# Altium schematic symbol library GPS.SchLib: 1 symbol
Pins are listed as number, name and electrical type; pins without a type are passive.

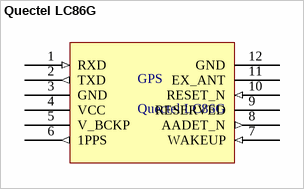
[diagram p0: symbol Quectel LC86G]

## Quectel LC86G
designator GPS
GNSS Module, BeiDou, Galileo, GLONASS, GPS, QZSS, 1.605375GHz, -166 dBm, 25 s, 2.55V to 3.6V; Manufacturer Part Number: LC86GLAMD; Number of Circuits: 1; Operating Supply Voltage: 3.3V; Supplier: DigiKey; Supplier Part Number: 2958-LC86GLAMDCT-ND; Manufacturer: Quectel; Category: RF Transceiver Modules and Modems; Stock: 191; Pricing: 1=10,82, 10=9,402, 25=8,908, 100=8,2298 (USD); Height - Seated (Max): 6.95mm; Length: 18.4mm; Max Operating Temperature: 85°C; Min Operating Temperature: -40°C; Number of Terminals: 36; Width: 18.4mm; ComponentLink1URL: https://datasheet.octopart.com:443/LC86GLAMD-Quectel-datasheet-165835560.pdf?src-supplier=SOS+electronic; ComponentLink1Description: https://datasheet.octopart.com:443/LC86GLAMD-Quectel-datasheet-165835560.pdf?src-supplier=SOS+electronic; Supplier 1: DigiKey; Supplier Part Number 1: 2958-LC86GLAMDCT-ND
pins: 1 RXD (in), 2 TXD (out), 3 GND (power), 4 VCC (power), 5 V_BCKP (power), 6 1PPS (out), 7 WAKEUP (in), 8 AADET_N (out), 9 RESERVED, 10 RESET_N (in), 11 EX_ANT, 12 GND (power)